# Altium schematic symbol library TA-3525-A2_2021-08-20.SCHLIB: 1 symbol
Pins are listed as number, name and electrical type; pins without a type are passive.

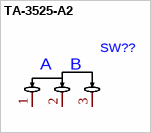
[diagram p0: symbol TA-3525-A2]

## TA-3525-A2
designator SW??
footprint SW-SMD_3P-L9.1-W3.5-P2.50-EH6.8
pins: 1, 2, 3
text: A; B